# EAGLE library part MICRO-SD (library hybridpi-connector)
MicroSD Memory Card Connector, Ultra Low-Profile, Push-Push Type, 1.45mm Height, Anti-card fly-out Datasheet: 5031821853 <http://www.molex.com/pdm_docs/sd/5031821853_sd.pdf>
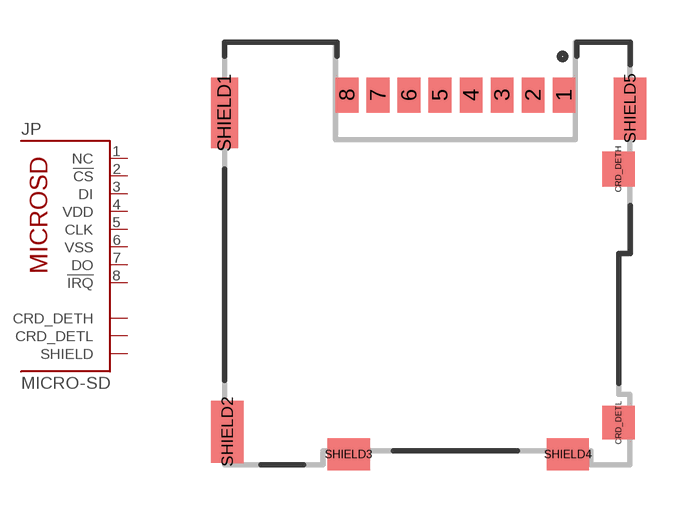
[diagram p1: symbol with the pads of MICROSD-5031821853; footprint MICROSD-5031821853]

Designator prefix JP

## MICRO-SD-5031821853 (EAGLEUP: MICROSD-5031821853; VENDOR: DIGI-KEY; VENDOR_PN: WM9750CT-ND)  [MICROSD-5031821853]
1  NC
2  !CS!
3  DI
4  VDD
5  CLK
6  VSS
7  DO
8  !IRQ!
CRD_DETH  CRD_DETH
CRD_DETL  CRD_DETL
SHIELD1  SHIELD
SHIELD2  SHIELD
SHIELD3  SHIELD
SHIELD4  SHIELD
SHIELD5  SHIELD

## Footprint MICROSD-5031821853 (pad centres in mm)
smd 0.8 x 1.24: 1 12.045,0.63; 2 10.945,0.63; 3 9.845,0.63; 4 8.745,0.63; 5 7.645,0.63; 6 6.545,0.63; 7 5.445,0.63; 8 4.345,0.63
smd 1.16 x 1.25: CRD_DETH 13.985,-2
smd 1.16 x 1.2: CRD_DETL 13.985,-11
smd 0.95 x 2.5: SHIELD1 0,0
smd 1.15 x 2.2: SHIELD2 0.1,-11.33; SHIELD5 14.39,0.15
smd 1.5 x 1.15: SHIELD3 4.405,-12.125; SHIELD4 12.185,-12.125